# Altium footprint library Resistors_GP.PcbLib: 194 footprints (part 2 of 13)
Each footprint in its own frame and in the unit in brackets; x right, y up, seen from the top. Pads: shape width x height; smd on the part's side, far side on the other; paste and mask are expansions set on the pad; w line width, h text height; cw(c..) or ccw(c..) is an arc to the next point about the centre after c.
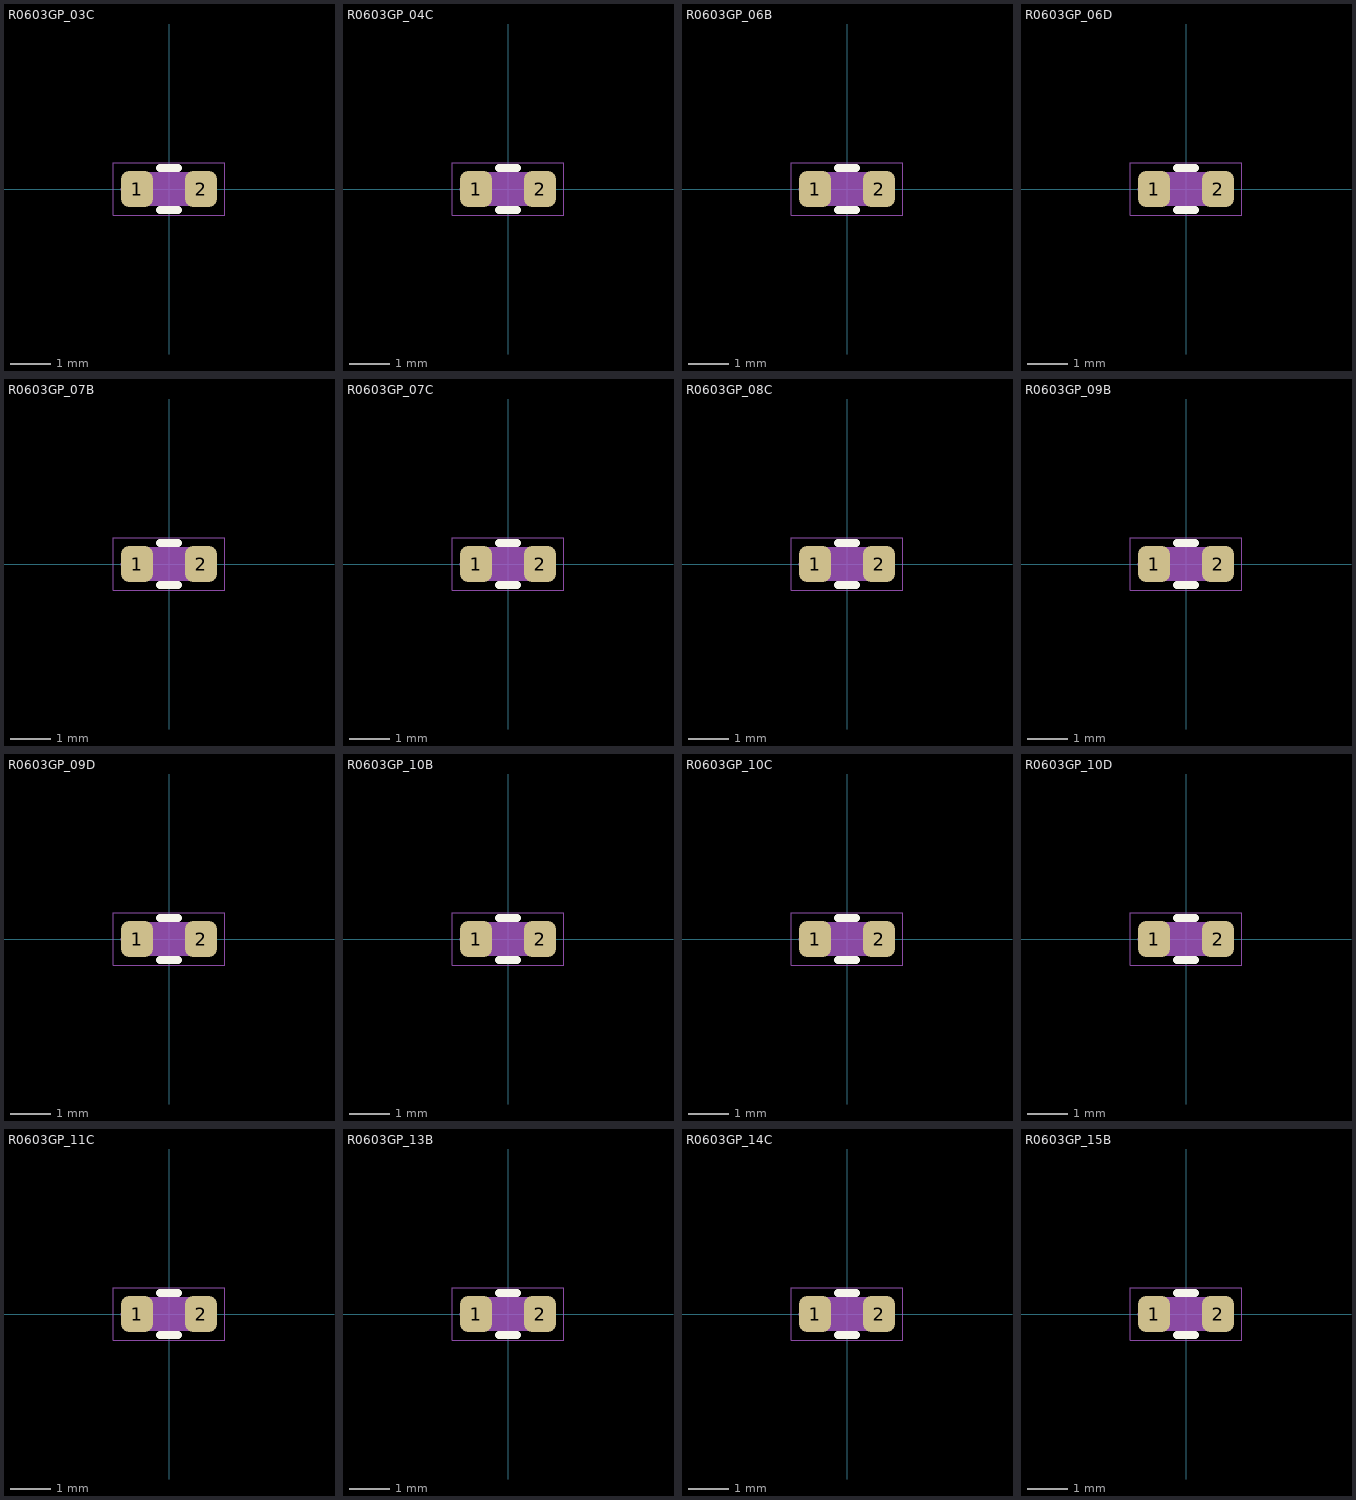
[diagram p1: the footprints below, top view; thin cyan lines are the x and y axes]

## R0603GP_03С [mm] "SMD060316X08MM"
height 0.45
pads (2):
  rrect50% 0.8x0.9 smd mask+0.05: 1(-0.8,0) 2(0.8,0)
Top Overlay:
  lines w0.2: -0.225,-0.525 0.225,-0.525 ; -0.225,0.525 0.225,0.525
Top Courtyard:
  lines w0.025: -1.4,-0.65 1.4,-0.65 1.4,0.65 -1.4,0.65 -1.4,-0.65
Top Assembly:
  lines w0.01: -1.19,-0.025 -1.19,0.025 ; 1.19,-0.025 1.19,0.025
  lines w0.05: -0.549,-0.395 0.549,-0.395 ; -0.549,0.395 0.549,0.395 ; -0.45,-0.395 -0.45,0.395 ; -0.4,-0.395 -0.4,0.395 ; -0.35,-0.395 -0.35,0.395 ; -0.3,-0.395 -0.3,0.395 ; -0.25,-0.395 -0.25,0.395 ; -0.2,-0.395 -0.2,0.395 ; -0.15,-0.395 -0.15,0.395 ; -0.1,-0.395 -0.1,0.395 ; -0.05,-0.395 -0.05,0.395 ; 0,-0.395 0,0.395 ; 0.05,-0.395 0.05,0.395 ; 0.1,-0.395 0.1,0.395 ; 0.15,-0.395 0.15,0.395 ; 0.2,-0.395 0.2,0.395 ; 0.25,-0.395 0.25,0.395 ; 0.3,-0.395 0.3,0.395 ; 0.35,-0.395 0.35,0.395 ; 0.4,-0.395 0.4,0.395 ; 0.45,-0.395 0.45,0.395 ; -0.55,-0.4 ccw(c-2.125,0) -0.55,0.4 ; -0.55,-0.4 -0.8,-0.4 -0.8,0.4 -0.55,0.4 ; -0.55,-0.4 -0.5,-0.4 -0.5,-0.395 -0.5,0.395 -0.5,0.4 -0.55,0.4 ; 0.55,-0.4 cw(c2.125,0) 0.55,0.4 ; 0.55,-0.4 0.8,-0.4 0.8,0.4 0.55,0.4 ; 0.55,-0.4 0.5,-0.4 0.5,-0.395 0.5,0.395 0.5,0.4 0.55,0.4
  text ".Designator" at -1.801,0.669 h0.8
3D body "R0603_BLACK_03С.x_t": height 0.45, standoff 0, extent -0.8,-0.4 0.8,0.4

## R0603GP_04C [mm] "SMD060316X08MM"
height 0.45
pads (2):
  rrect50% 0.8x0.9 smd mask+0.05: 1(-0.8,0) 2(0.8,0)
Top Overlay:
  lines w0.2: -0.225,-0.525 0.225,-0.525 ; -0.225,0.525 0.225,0.525
Top Courtyard:
  lines w0.025: -1.4,-0.65 -1.4,0.65 1.4,0.65 1.4,-0.65 -1.4,-0.65
Top Assembly:
  lines w0.01: -1.19,-0.025 -1.19,0.025 ; 1.19,-0.025 1.19,0.025
  lines w0.05: -0.549,-0.395 0.549,-0.395 ; -0.549,0.395 0.549,0.395 ; -0.45,-0.395 -0.45,0.395 ; -0.4,-0.395 -0.4,0.395 ; -0.35,-0.395 -0.35,0.395 ; -0.3,-0.395 -0.3,0.395 ; -0.25,-0.395 -0.25,0.395 ; -0.2,-0.395 -0.2,0.395 ; -0.15,-0.395 -0.15,0.395 ; -0.1,-0.395 -0.1,0.395 ; -0.05,-0.395 -0.05,0.395 ; 0,-0.395 0,0.395 ; 0.05,-0.395 0.05,0.395 ; 0.1,-0.395 0.1,0.395 ; 0.15,-0.395 0.15,0.395 ; 0.2,-0.395 0.2,0.395 ; 0.25,-0.395 0.25,0.395 ; 0.3,-0.395 0.3,0.395 ; 0.35,-0.395 0.35,0.395 ; 0.4,-0.395 0.4,0.395 ; 0.45,-0.395 0.45,0.395 ; -0.55,-0.4 ccw(c-2.125,0) -0.55,0.4 ; -0.55,-0.4 -0.5,-0.4 -0.5,-0.395 -0.5,0.395 -0.5,0.4 -0.55,0.4 ; -0.55,-0.4 -0.8,-0.4 -0.8,0.4 -0.55,0.4 ; 0.55,-0.4 cw(c2.125,0) 0.55,0.4 ; 0.55,-0.4 0.5,-0.4 0.5,-0.395 0.5,0.395 0.5,0.4 0.55,0.4 ; 0.55,-0.4 0.8,-0.4 0.8,0.4 0.55,0.4
  text ".Designator" at -1.801,0.669 h0.8
3D body "R0603_BLACK_04C.x_t": height 0.45, standoff 0, extent -0.8,-0.4 0.8,0.4

## R0603GP_06B [mm] "SMD060316X08MM"
height 0.45
pads (2):
  rrect50% 0.8x0.9 smd mask+0.05: 1(-0.8,0) 2(0.8,0)
Top Overlay:
  lines w0.2: -0.225,-0.525 0.225,-0.525 ; -0.225,0.525 0.225,0.525
Top Courtyard:
  lines w0.025: -1.4,-0.65 1.4,-0.65 1.4,0.65 -1.4,0.65 -1.4,-0.65
Top Assembly:
  lines w0.01: -1.19,-0.025 -1.19,0.025 ; 1.19,-0.025 1.19,0.025
  lines w0.05: -0.549,-0.395 0.549,-0.395 ; -0.549,0.395 0.549,0.395 ; -0.45,-0.395 -0.45,0.395 ; -0.4,-0.395 -0.4,0.395 ; -0.35,-0.395 -0.35,0.395 ; -0.3,-0.395 -0.3,0.395 ; -0.25,-0.395 -0.25,0.395 ; -0.2,-0.395 -0.2,0.395 ; -0.15,-0.395 -0.15,0.395 ; -0.1,-0.395 -0.1,0.395 ; -0.05,-0.395 -0.05,0.395 ; 0,-0.395 0,0.395 ; 0.05,-0.395 0.05,0.395 ; 0.1,-0.395 0.1,0.395 ; 0.15,-0.395 0.15,0.395 ; 0.2,-0.395 0.2,0.395 ; 0.25,-0.395 0.25,0.395 ; 0.3,-0.395 0.3,0.395 ; 0.35,-0.395 0.35,0.395 ; 0.4,-0.395 0.4,0.395 ; 0.45,-0.395 0.45,0.395 ; -0.55,-0.4 ccw(c-2.125,0) -0.55,0.4 ; -0.55,-0.4 -0.5,-0.4 -0.5,-0.395 -0.5,0.395 -0.5,0.4 -0.55,0.4 ; -0.55,-0.4 -0.8,-0.4 -0.8,0.4 -0.55,0.4 ; 0.55,-0.4 cw(c2.125,0) 0.55,0.4 ; 0.55,-0.4 0.5,-0.4 0.5,-0.395 0.5,0.395 0.5,0.4 0.55,0.4 ; 0.55,-0.4 0.8,-0.4 0.8,0.4 0.55,0.4
  text ".Designator" at -1.801,0.669 h0.8
3D body "R0603_BLACK_06B.x_t": height 0.45, standoff 0, extent -0.8,-0.4 0.8,0.4

## R0603GP_06D [mm] "SMD060316X08MM"
height 0.45
pads (2):
  rrect50% 0.8x0.9 smd mask+0.05: 1(-0.8,0) 2(0.8,0)
Top Overlay:
  lines w0.2: -0.225,-0.525 0.225,-0.525 ; -0.225,0.525 0.225,0.525
Top Courtyard:
  lines w0.025: -1.4,-0.65 -1.4,0.65 1.4,0.65 1.4,-0.65 -1.4,-0.65
Top Assembly:
  lines w0.01: -1.19,-0.025 -1.19,0.025 ; 1.19,-0.025 1.19,0.025
  lines w0.05: -0.549,-0.395 0.549,-0.395 ; -0.549,0.395 0.549,0.395 ; -0.45,-0.395 -0.45,0.395 ; -0.4,-0.395 -0.4,0.395 ; -0.35,-0.395 -0.35,0.395 ; -0.3,-0.395 -0.3,0.395 ; -0.25,-0.395 -0.25,0.395 ; -0.2,-0.395 -0.2,0.395 ; -0.15,-0.395 -0.15,0.395 ; -0.1,-0.395 -0.1,0.395 ; -0.05,-0.395 -0.05,0.395 ; 0,-0.395 0,0.395 ; 0.05,-0.395 0.05,0.395 ; 0.1,-0.395 0.1,0.395 ; 0.15,-0.395 0.15,0.395 ; 0.2,-0.395 0.2,0.395 ; 0.25,-0.395 0.25,0.395 ; 0.3,-0.395 0.3,0.395 ; 0.35,-0.395 0.35,0.395 ; 0.4,-0.395 0.4,0.395 ; 0.45,-0.395 0.45,0.395 ; -0.55,-0.4 ccw(c-2.125,0) -0.55,0.4 ; -0.55,-0.4 -0.5,-0.4 -0.5,-0.395 -0.5,0.395 -0.5,0.4 -0.55,0.4 ; -0.55,-0.4 -0.8,-0.4 -0.8,0.4 -0.55,0.4 ; 0.55,-0.4 cw(c2.125,0) 0.55,0.4 ; 0.55,-0.4 0.5,-0.4 0.5,-0.395 0.5,0.395 0.5,0.4 0.55,0.4 ; 0.55,-0.4 0.8,-0.4 0.8,0.4 0.55,0.4
  text ".Designator" at -1.801,0.669 h0.8
3D body "R0603_BLACK_06D.x_t": height 0.45, standoff 0, extent -0.8,-0.4 0.8,0.4

## R0603GP_07B [mm] "SMD060316X08MM"
height 0.45
pads (2):
  rrect50% 0.8x0.9 smd mask+0.05: 1(-0.8,0) 2(0.8,0)
Top Overlay:
  lines w0.2: -0.225,-0.525 0.225,-0.525 ; -0.225,0.525 0.225,0.525
Top Courtyard:
  lines w0.025: -1.4,-0.65 1.4,-0.65 1.4,0.65 -1.4,0.65 -1.4,-0.65
Top Assembly:
  lines w0.01: -1.19,-0.025 -1.19,0.025 ; 1.19,-0.025 1.19,0.025
  lines w0.05: -0.549,-0.395 0.549,-0.395 ; -0.549,0.395 0.549,0.395 ; -0.45,-0.395 -0.45,0.395 ; -0.4,-0.395 -0.4,0.395 ; -0.35,-0.395 -0.35,0.395 ; -0.3,-0.395 -0.3,0.395 ; -0.25,-0.395 -0.25,0.395 ; -0.2,-0.395 -0.2,0.395 ; -0.15,-0.395 -0.15,0.395 ; -0.1,-0.395 -0.1,0.395 ; -0.05,-0.395 -0.05,0.395 ; 0,-0.395 0,0.395 ; 0.05,-0.395 0.05,0.395 ; 0.1,-0.395 0.1,0.395 ; 0.15,-0.395 0.15,0.395 ; 0.2,-0.395 0.2,0.395 ; 0.25,-0.395 0.25,0.395 ; 0.3,-0.395 0.3,0.395 ; 0.35,-0.395 0.35,0.395 ; 0.4,-0.395 0.4,0.395 ; 0.45,-0.395 0.45,0.395 ; -0.55,-0.4 ccw(c-2.125,0) -0.55,0.4 ; -0.55,-0.4 -0.8,-0.4 -0.8,0.4 -0.55,0.4 ; -0.55,-0.4 -0.5,-0.4 -0.5,-0.395 -0.5,0.395 -0.5,0.4 -0.55,0.4 ; 0.55,-0.4 cw(c2.125,0) 0.55,0.4 ; 0.55,-0.4 0.8,-0.4 0.8,0.4 0.55,0.4 ; 0.55,-0.4 0.5,-0.4 0.5,-0.395 0.5,0.395 0.5,0.4 0.55,0.4
  text ".Designator" at -1.801,0.669 h0.8
3D body "R0603_BLACK_07B.x_t": height 0.45, standoff 0, extent -0.8,-0.4 0.8,0.4

## R0603GP_07C [mm] "SMD060316X08MM"
height 0.45
pads (2):
  rrect50% 0.8x0.9 smd mask+0.05: 1(-0.8,0) 2(0.8,0)
Top Overlay:
  lines w0.2: -0.225,-0.525 0.225,-0.525 ; -0.225,0.525 0.225,0.525
Top Courtyard:
  lines w0.025: -1.4,-0.65 1.4,-0.65 1.4,0.65 -1.4,0.65 -1.4,-0.65
Top Assembly:
  lines w0.01: -1.19,-0.025 -1.19,0.025 ; 1.19,-0.025 1.19,0.025
  lines w0.05: -0.549,-0.395 0.549,-0.395 ; -0.549,0.395 0.549,0.395 ; -0.45,-0.395 -0.45,0.395 ; -0.4,-0.395 -0.4,0.395 ; -0.35,-0.395 -0.35,0.395 ; -0.3,-0.395 -0.3,0.395 ; -0.25,-0.395 -0.25,0.395 ; -0.2,-0.395 -0.2,0.395 ; -0.15,-0.395 -0.15,0.395 ; -0.1,-0.395 -0.1,0.395 ; -0.05,-0.395 -0.05,0.395 ; 0,-0.395 0,0.395 ; 0.05,-0.395 0.05,0.395 ; 0.1,-0.395 0.1,0.395 ; 0.15,-0.395 0.15,0.395 ; 0.2,-0.395 0.2,0.395 ; 0.25,-0.395 0.25,0.395 ; 0.3,-0.395 0.3,0.395 ; 0.35,-0.395 0.35,0.395 ; 0.4,-0.395 0.4,0.395 ; 0.45,-0.395 0.45,0.395 ; -0.55,-0.4 ccw(c-2.125,0) -0.55,0.4 ; -0.55,-0.4 -0.8,-0.4 -0.8,0.4 -0.55,0.4 ; -0.55,-0.4 -0.5,-0.4 -0.5,-0.395 -0.5,0.395 -0.5,0.4 -0.55,0.4 ; 0.55,-0.4 cw(c2.125,0) 0.55,0.4 ; 0.55,-0.4 0.8,-0.4 0.8,0.4 0.55,0.4 ; 0.55,-0.4 0.5,-0.4 0.5,-0.395 0.5,0.395 0.5,0.4 0.55,0.4
  text ".Designator" at -1.801,0.669 h0.8
3D body "R0603_BLACK_07C.x_t": height 0.45, standoff 0, extent -0.8,-0.4 0.8,0.4

## R0603GP_08C [mm] "SMD060316X08MM"
height 0.45
pads (2):
  rrect50% 0.8x0.9 smd mask+0.05: 1(-0.8,0) 2(0.8,0)
Top Overlay:
  lines w0.2: -0.225,-0.525 0.225,-0.525 ; -0.225,0.525 0.225,0.525
Top Courtyard:
  lines w0.025: -1.4,-0.65 1.4,-0.65 1.4,0.65 -1.4,0.65 -1.4,-0.65
Top Assembly:
  lines w0.01: -1.19,-0.025 -1.19,0.025 ; 1.19,-0.025 1.19,0.025
  lines w0.05: -0.549,-0.395 0.549,-0.395 ; -0.549,0.395 0.549,0.395 ; -0.45,-0.395 -0.45,0.395 ; -0.4,-0.395 -0.4,0.395 ; -0.35,-0.395 -0.35,0.395 ; -0.3,-0.395 -0.3,0.395 ; -0.25,-0.395 -0.25,0.395 ; -0.2,-0.395 -0.2,0.395 ; -0.15,-0.395 -0.15,0.395 ; -0.1,-0.395 -0.1,0.395 ; -0.05,-0.395 -0.05,0.395 ; 0,-0.395 0,0.395 ; 0.05,-0.395 0.05,0.395 ; 0.1,-0.395 0.1,0.395 ; 0.15,-0.395 0.15,0.395 ; 0.2,-0.395 0.2,0.395 ; 0.25,-0.395 0.25,0.395 ; 0.3,-0.395 0.3,0.395 ; 0.35,-0.395 0.35,0.395 ; 0.4,-0.395 0.4,0.395 ; 0.45,-0.395 0.45,0.395 ; -0.55,-0.4 ccw(c-2.125,0) -0.55,0.4 ; -0.55,-0.4 -0.8,-0.4 -0.8,0.4 -0.55,0.4 ; -0.55,-0.4 -0.5,-0.4 -0.5,-0.395 -0.5,0.395 -0.5,0.4 -0.55,0.4 ; 0.55,-0.4 cw(c2.125,0) 0.55,0.4 ; 0.55,-0.4 0.8,-0.4 0.8,0.4 0.55,0.4 ; 0.55,-0.4 0.5,-0.4 0.5,-0.395 0.5,0.395 0.5,0.4 0.55,0.4
  text ".Designator" at -1.801,0.669 h0.8
3D body "R0603_BLACK_08C.x_t": height 0.45, standoff 0, extent -0.8,-0.4 0.8,0.4

## R0603GP_09B [mm] "SMD060316X08MM"
height 0.45
pads (2):
  rrect50% 0.8x0.9 smd mask+0.05: 1(-0.8,0) 2(0.8,0)
Top Overlay:
  lines w0.2: -0.225,-0.525 0.225,-0.525 ; -0.225,0.525 0.225,0.525
Top Courtyard:
  lines w0.025: -1.4,-0.65 1.4,-0.65 1.4,0.65 -1.4,0.65 -1.4,-0.65
Top Assembly:
  lines w0.01: -1.19,-0.025 -1.19,0.025 ; 1.19,-0.025 1.19,0.025
  lines w0.05: -0.549,-0.395 0.549,-0.395 ; -0.549,0.395 0.549,0.395 ; -0.45,-0.395 -0.45,0.395 ; -0.4,-0.395 -0.4,0.395 ; -0.35,-0.395 -0.35,0.395 ; -0.3,-0.395 -0.3,0.395 ; -0.25,-0.395 -0.25,0.395 ; -0.2,-0.395 -0.2,0.395 ; -0.15,-0.395 -0.15,0.395 ; -0.1,-0.395 -0.1,0.395 ; -0.05,-0.395 -0.05,0.395 ; 0,-0.395 0,0.395 ; 0.05,-0.395 0.05,0.395 ; 0.1,-0.395 0.1,0.395 ; 0.15,-0.395 0.15,0.395 ; 0.2,-0.395 0.2,0.395 ; 0.25,-0.395 0.25,0.395 ; 0.3,-0.395 0.3,0.395 ; 0.35,-0.395 0.35,0.395 ; 0.4,-0.395 0.4,0.395 ; 0.45,-0.395 0.45,0.395 ; -0.55,-0.4 ccw(c-2.125,0) -0.55,0.4 ; -0.55,-0.4 -0.5,-0.4 -0.5,-0.395 -0.5,0.395 -0.5,0.4 -0.55,0.4 ; -0.55,-0.4 -0.8,-0.4 -0.8,0.4 -0.55,0.4 ; 0.55,-0.4 cw(c2.125,0) 0.55,0.4 ; 0.55,-0.4 0.5,-0.4 0.5,-0.395 0.5,0.395 0.5,0.4 0.55,0.4 ; 0.55,-0.4 0.8,-0.4 0.8,0.4 0.55,0.4
  text ".Designator" at -1.801,0.669 h0.8
3D body "R0603_BLACK_09B.x_t": height 0.45, standoff 0, extent -0.8,-0.4 0.8,0.4

## R0603GP_09D [mm] "SMD060316X08MM"
height 0.45
pads (2):
  rrect50% 0.8x0.9 smd mask+0.05: 1(-0.8,0) 2(0.8,0)
Top Overlay:
  lines w0.2: -0.225,-0.525 0.225,-0.525 ; -0.225,0.525 0.225,0.525
Top Courtyard:
  lines w0.025: -1.4,-0.65 -1.4,0.65 1.4,0.65 1.4,-0.65 -1.4,-0.65
Top Assembly:
  lines w0.01: -1.19,-0.025 -1.19,0.025 ; 1.19,-0.025 1.19,0.025
  lines w0.05: -0.549,-0.395 0.549,-0.395 ; -0.549,0.395 0.549,0.395 ; -0.45,-0.395 -0.45,0.395 ; -0.4,-0.395 -0.4,0.395 ; -0.35,-0.395 -0.35,0.395 ; -0.3,-0.395 -0.3,0.395 ; -0.25,-0.395 -0.25,0.395 ; -0.2,-0.395 -0.2,0.395 ; -0.15,-0.395 -0.15,0.395 ; -0.1,-0.395 -0.1,0.395 ; -0.05,-0.395 -0.05,0.395 ; 0,-0.395 0,0.395 ; 0.05,-0.395 0.05,0.395 ; 0.1,-0.395 0.1,0.395 ; 0.15,-0.395 0.15,0.395 ; 0.2,-0.395 0.2,0.395 ; 0.25,-0.395 0.25,0.395 ; 0.3,-0.395 0.3,0.395 ; 0.35,-0.395 0.35,0.395 ; 0.4,-0.395 0.4,0.395 ; 0.45,-0.395 0.45,0.395 ; -0.55,-0.4 ccw(c-2.125,0) -0.55,0.4 ; -0.55,-0.4 -0.8,-0.4 -0.8,0.4 -0.55,0.4 ; -0.55,-0.4 -0.5,-0.4 -0.5,-0.395 -0.5,0.395 -0.5,0.4 -0.55,0.4 ; 0.55,-0.4 cw(c2.125,0) 0.55,0.4 ; 0.55,-0.4 0.8,-0.4 0.8,0.4 0.55,0.4 ; 0.55,-0.4 0.5,-0.4 0.5,-0.395 0.5,0.395 0.5,0.4 0.55,0.4
  text ".Designator" at -1.801,0.669 h0.8
3D body "R0603_BLACK_09D.x_t": height 0.45, standoff 0, extent -0.8,-0.4 0.8,0.4

## R0603GP_10B [mm] "SMD060316X08MM"
height 0.45
pads (2):
  rrect50% 0.8x0.9 smd mask+0.05: 1(-0.8,0) 2(0.8,0)
Top Overlay:
  lines w0.2: -0.225,-0.525 0.225,-0.525 ; -0.225,0.525 0.225,0.525
Top Courtyard:
  lines w0.025: -1.4,-0.65 1.4,-0.65 1.4,0.65 -1.4,0.65 -1.4,-0.65
Top Assembly:
  lines w0.01: -1.19,-0.025 -1.19,0.025 ; 1.19,-0.025 1.19,0.025
  lines w0.05: -0.549,-0.395 0.549,-0.395 ; -0.549,0.395 0.549,0.395 ; -0.45,-0.395 -0.45,0.395 ; -0.4,-0.395 -0.4,0.395 ; -0.35,-0.395 -0.35,0.395 ; -0.3,-0.395 -0.3,0.395 ; -0.25,-0.395 -0.25,0.395 ; -0.2,-0.395 -0.2,0.395 ; -0.15,-0.395 -0.15,0.395 ; -0.1,-0.395 -0.1,0.395 ; -0.05,-0.395 -0.05,0.395 ; 0,-0.395 0,0.395 ; 0.05,-0.395 0.05,0.395 ; 0.1,-0.395 0.1,0.395 ; 0.15,-0.395 0.15,0.395 ; 0.2,-0.395 0.2,0.395 ; 0.25,-0.395 0.25,0.395 ; 0.3,-0.395 0.3,0.395 ; 0.35,-0.395 0.35,0.395 ; 0.4,-0.395 0.4,0.395 ; 0.45,-0.395 0.45,0.395 ; -0.55,-0.4 ccw(c-2.125,0) -0.55,0.4 ; -0.55,-0.4 -0.8,-0.4 -0.8,0.4 -0.55,0.4 ; -0.55,-0.4 -0.5,-0.4 -0.5,-0.395 -0.5,0.395 -0.5,0.4 -0.55,0.4 ; 0.55,-0.4 cw(c2.125,0) 0.55,0.4 ; 0.55,-0.4 0.8,-0.4 0.8,0.4 0.55,0.4 ; 0.55,-0.4 0.5,-0.4 0.5,-0.395 0.5,0.395 0.5,0.4 0.55,0.4
  text ".Designator" at -1.801,0.669 h0.8
3D body "R0603_BLACK_10B.x_t": height 0.45, standoff 0, extent -0.8,-0.4 0.8,0.4

## R0603GP_10C [mm] "SMD060316X08MM"
height 0.45
pads (2):
  rrect50% 0.8x0.9 smd mask+0.05: 1(-0.8,0) 2(0.8,0)
Top Overlay:
  lines w0.2: -0.225,-0.525 0.225,-0.525 ; -0.225,0.525 0.225,0.525
Top Courtyard:
  lines w0.025: -1.4,-0.65 1.4,-0.65 1.4,0.65 -1.4,0.65 -1.4,-0.65
Top Assembly:
  lines w0.01: -1.19,-0.025 -1.19,0.025 ; 1.19,-0.025 1.19,0.025
  lines w0.05: -0.549,-0.395 0.549,-0.395 ; -0.549,0.395 0.549,0.395 ; -0.45,-0.395 -0.45,0.395 ; -0.4,-0.395 -0.4,0.395 ; -0.35,-0.395 -0.35,0.395 ; -0.3,-0.395 -0.3,0.395 ; -0.25,-0.395 -0.25,0.395 ; -0.2,-0.395 -0.2,0.395 ; -0.15,-0.395 -0.15,0.395 ; -0.1,-0.395 -0.1,0.395 ; -0.05,-0.395 -0.05,0.395 ; 0,-0.395 0,0.395 ; 0.05,-0.395 0.05,0.395 ; 0.1,-0.395 0.1,0.395 ; 0.15,-0.395 0.15,0.395 ; 0.2,-0.395 0.2,0.395 ; 0.25,-0.395 0.25,0.395 ; 0.3,-0.395 0.3,0.395 ; 0.35,-0.395 0.35,0.395 ; 0.4,-0.395 0.4,0.395 ; 0.45,-0.395 0.45,0.395 ; -0.55,-0.4 ccw(c-2.125,0) -0.55,0.4 ; -0.55,-0.4 -0.8,-0.4 -0.8,0.4 -0.55,0.4 ; -0.55,-0.4 -0.5,-0.4 -0.5,-0.395 -0.5,0.395 -0.5,0.4 -0.55,0.4 ; 0.55,-0.4 cw(c2.125,0) 0.55,0.4 ; 0.55,-0.4 0.8,-0.4 0.8,0.4 0.55,0.4 ; 0.55,-0.4 0.5,-0.4 0.5,-0.395 0.5,0.395 0.5,0.4 0.55,0.4
  text ".Designator" at -1.801,0.669 h0.8
3D body "R0603_BLACK_10C.x_t": height 0.45, standoff 0, extent -0.8,-0.4 0.8,0.4

## R0603GP_10D [mm] "SMD060316X08MM"
height 0.45
pads (2):
  rrect50% 0.8x0.9 smd mask+0.05: 1(-0.8,0) 2(0.8,0)
Top Overlay:
  lines w0.2: -0.225,-0.525 0.225,-0.525 ; -0.225,0.525 0.225,0.525
Top Courtyard:
  lines w0.025: -1.4,-0.65 1.4,-0.65 1.4,0.65 -1.4,0.65 -1.4,-0.65
Top Assembly:
  lines w0.01: -1.19,-0.025 -1.19,0.025 ; 1.19,-0.025 1.19,0.025
  lines w0.05: -0.549,-0.395 0.549,-0.395 ; -0.549,0.395 0.549,0.395 ; -0.45,-0.395 -0.45,0.395 ; -0.4,-0.395 -0.4,0.395 ; -0.35,-0.395 -0.35,0.395 ; -0.3,-0.395 -0.3,0.395 ; -0.25,-0.395 -0.25,0.395 ; -0.2,-0.395 -0.2,0.395 ; -0.15,-0.395 -0.15,0.395 ; -0.1,-0.395 -0.1,0.395 ; -0.05,-0.395 -0.05,0.395 ; 0,-0.395 0,0.395 ; 0.05,-0.395 0.05,0.395 ; 0.1,-0.395 0.1,0.395 ; 0.15,-0.395 0.15,0.395 ; 0.2,-0.395 0.2,0.395 ; 0.25,-0.395 0.25,0.395 ; 0.3,-0.395 0.3,0.395 ; 0.35,-0.395 0.35,0.395 ; 0.4,-0.395 0.4,0.395 ; 0.45,-0.395 0.45,0.395 ; -0.55,-0.4 ccw(c-2.125,0) -0.55,0.4 ; -0.55,-0.4 -0.8,-0.4 -0.8,0.4 -0.55,0.4 ; -0.55,-0.4 -0.5,-0.4 -0.5,-0.395 -0.5,0.395 -0.5,0.4 -0.55,0.4 ; 0.55,-0.4 cw(c2.125,0) 0.55,0.4 ; 0.55,-0.4 0.8,-0.4 0.8,0.4 0.55,0.4 ; 0.55,-0.4 0.5,-0.4 0.5,-0.395 0.5,0.395 0.5,0.4 0.55,0.4
  text ".Designator" at -1.801,0.669 h0.8
3D body "R0603_BLACK_10D.x_t": height 0.45, standoff 0, extent -0.8,-0.4 0.8,0.4

## R0603GP_11C [mm] "SMD060316X08MM"
height 0.45
pads (2):
  rrect50% 0.8x0.9 smd mask+0.05: 1(-0.8,0) 2(0.8,0)
Top Overlay:
  lines w0.2: -0.225,-0.525 0.225,-0.525 ; -0.225,0.525 0.225,0.525
Top Courtyard:
  lines w0.025: -1.4,-0.65 -1.4,0.65 1.4,0.65 1.4,-0.65 -1.4,-0.65
Top Assembly:
  lines w0.01: -1.19,-0.025 -1.19,0.025 ; 1.19,-0.025 1.19,0.025
  lines w0.05: -0.549,-0.395 0.549,-0.395 ; -0.549,0.395 0.549,0.395 ; -0.45,-0.395 -0.45,0.395 ; -0.4,-0.395 -0.4,0.395 ; -0.35,-0.395 -0.35,0.395 ; -0.3,-0.395 -0.3,0.395 ; -0.25,-0.395 -0.25,0.395 ; -0.2,-0.395 -0.2,0.395 ; -0.15,-0.395 -0.15,0.395 ; -0.1,-0.395 -0.1,0.395 ; -0.05,-0.395 -0.05,0.395 ; 0,-0.395 0,0.395 ; 0.05,-0.395 0.05,0.395 ; 0.1,-0.395 0.1,0.395 ; 0.15,-0.395 0.15,0.395 ; 0.2,-0.395 0.2,0.395 ; 0.25,-0.395 0.25,0.395 ; 0.3,-0.395 0.3,0.395 ; 0.35,-0.395 0.35,0.395 ; 0.4,-0.395 0.4,0.395 ; 0.45,-0.395 0.45,0.395 ; -0.55,-0.4 ccw(c-2.125,0) -0.55,0.4 ; -0.55,-0.4 -0.5,-0.4 -0.5,-0.395 -0.5,0.395 -0.5,0.4 -0.55,0.4 ; -0.55,-0.4 -0.8,-0.4 -0.8,0.4 -0.55,0.4 ; 0.55,-0.4 cw(c2.125,0) 0.55,0.4 ; 0.55,-0.4 0.5,-0.4 0.5,-0.395 0.5,0.395 0.5,0.4 0.55,0.4 ; 0.55,-0.4 0.8,-0.4 0.8,0.4 0.55,0.4
  text ".Designator" at -1.801,0.669 h0.8
3D body "R0603_BLACK_11C.x_t": height 0.45, standoff 0, extent -0.8,-0.4 0.8,0.4

## R0603GP_13B [mm] "SMD060316X08MM"
height 0.45
pads (2):
  rrect50% 0.8x0.9 smd mask+0.05: 1(-0.8,0) 2(0.8,0)
Top Overlay:
  lines w0.2: -0.225,-0.525 0.225,-0.525 ; -0.225,0.525 0.225,0.525
Top Courtyard:
  lines w0.025: -1.4,-0.65 -1.4,0.65 1.4,0.65 1.4,-0.65 -1.4,-0.65
Top Assembly:
  lines w0.01: -1.19,-0.025 -1.19,0.025 ; 1.19,-0.025 1.19,0.025
  lines w0.05: -0.549,-0.395 0.549,-0.395 ; -0.549,0.395 0.549,0.395 ; -0.45,-0.395 -0.45,0.395 ; -0.4,-0.395 -0.4,0.395 ; -0.35,-0.395 -0.35,0.395 ; -0.3,-0.395 -0.3,0.395 ; -0.25,-0.395 -0.25,0.395 ; -0.2,-0.395 -0.2,0.395 ; -0.15,-0.395 -0.15,0.395 ; -0.1,-0.395 -0.1,0.395 ; -0.05,-0.395 -0.05,0.395 ; 0,-0.395 0,0.395 ; 0.05,-0.395 0.05,0.395 ; 0.1,-0.395 0.1,0.395 ; 0.15,-0.395 0.15,0.395 ; 0.2,-0.395 0.2,0.395 ; 0.25,-0.395 0.25,0.395 ; 0.3,-0.395 0.3,0.395 ; 0.35,-0.395 0.35,0.395 ; 0.4,-0.395 0.4,0.395 ; 0.45,-0.395 0.45,0.395 ; -0.55,-0.4 ccw(c-2.125,0) -0.55,0.4 ; -0.55,-0.4 -0.5,-0.4 -0.5,-0.395 -0.5,0.395 -0.5,0.4 -0.55,0.4 ; -0.55,-0.4 -0.8,-0.4 -0.8,0.4 -0.55,0.4 ; 0.55,-0.4 cw(c2.125,0) 0.55,0.4 ; 0.55,-0.4 0.5,-0.4 0.5,-0.395 0.5,0.395 0.5,0.4 0.55,0.4 ; 0.55,-0.4 0.8,-0.4 0.8,0.4 0.55,0.4
  text ".Designator" at -1.801,0.669 h0.8
3D body "R0603_BLACK_13B.x_t": height 0.45, standoff 0, extent -0.8,-0.4 0.8,0.4

## R0603GP_14C [mm] "SMD060316X08MM"
height 0.45
pads (2):
  rrect50% 0.8x0.9 smd mask+0.05: 1(-0.8,0) 2(0.8,0)
Top Overlay:
  lines w0.2: -0.225,-0.525 0.225,-0.525 ; -0.225,0.525 0.225,0.525
Top Courtyard:
  lines w0.025: -1.4,-0.65 -1.4,0.65 1.4,0.65 1.4,-0.65 -1.4,-0.65
Top Assembly:
  lines w0.01: -1.19,-0.025 -1.19,0.025 ; 1.19,-0.025 1.19,0.025
  lines w0.05: -0.549,-0.395 0.549,-0.395 ; -0.549,0.395 0.549,0.395 ; -0.45,-0.395 -0.45,0.395 ; -0.4,-0.395 -0.4,0.395 ; -0.35,-0.395 -0.35,0.395 ; -0.3,-0.395 -0.3,0.395 ; -0.25,-0.395 -0.25,0.395 ; -0.2,-0.395 -0.2,0.395 ; -0.15,-0.395 -0.15,0.395 ; -0.1,-0.395 -0.1,0.395 ; -0.05,-0.395 -0.05,0.395 ; 0,-0.395 0,0.395 ; 0.05,-0.395 0.05,0.395 ; 0.1,-0.395 0.1,0.395 ; 0.15,-0.395 0.15,0.395 ; 0.2,-0.395 0.2,0.395 ; 0.25,-0.395 0.25,0.395 ; 0.3,-0.395 0.3,0.395 ; 0.35,-0.395 0.35,0.395 ; 0.4,-0.395 0.4,0.395 ; 0.45,-0.395 0.45,0.395 ; -0.55,-0.4 ccw(c-2.125,0) -0.55,0.4 ; -0.55,-0.4 -0.8,-0.4 -0.8,0.4 -0.55,0.4 ; -0.55,-0.4 -0.5,-0.4 -0.5,-0.395 -0.5,0.395 -0.5,0.4 -0.55,0.4 ; 0.55,-0.4 cw(c2.125,0) 0.55,0.4 ; 0.55,-0.4 0.8,-0.4 0.8,0.4 0.55,0.4 ; 0.55,-0.4 0.5,-0.4 0.5,-0.395 0.5,0.395 0.5,0.4 0.55,0.4
  text ".Designator" at -1.801,0.669 h0.8
3D body "R0603_BLACK_14C.x_t": height 0.45, standoff 0, extent -0.8,-0.4 0.8,0.4

## R0603GP_15B [mm] "SMD060316X08MM"
height 0.45
pads (2):
  rrect50% 0.8x0.9 smd mask+0.05: 1(-0.8,0) 2(0.8,0)
Top Overlay:
  lines w0.2: -0.225,-0.525 0.225,-0.525 ; -0.225,0.525 0.225,0.525
Top Courtyard:
  lines w0.025: -1.4,-0.65 1.4,-0.65 1.4,0.65 -1.4,0.65 -1.4,-0.65
Top Assembly:
  lines w0.01: -1.19,-0.025 -1.19,0.025 ; 1.19,-0.025 1.19,0.025
  lines w0.05: -0.549,-0.395 0.549,-0.395 ; -0.549,0.395 0.549,0.395 ; -0.45,-0.395 -0.45,0.395 ; -0.4,-0.395 -0.4,0.395 ; -0.35,-0.395 -0.35,0.395 ; -0.3,-0.395 -0.3,0.395 ; -0.25,-0.395 -0.25,0.395 ; -0.2,-0.395 -0.2,0.395 ; -0.15,-0.395 -0.15,0.395 ; -0.1,-0.395 -0.1,0.395 ; -0.05,-0.395 -0.05,0.395 ; 0,-0.395 0,0.395 ; 0.05,-0.395 0.05,0.395 ; 0.1,-0.395 0.1,0.395 ; 0.15,-0.395 0.15,0.395 ; 0.2,-0.395 0.2,0.395 ; 0.25,-0.395 0.25,0.395 ; 0.3,-0.395 0.3,0.395 ; 0.35,-0.395 0.35,0.395 ; 0.4,-0.395 0.4,0.395 ; 0.45,-0.395 0.45,0.395 ; -0.55,-0.4 ccw(c-2.125,0) -0.55,0.4 ; -0.55,-0.4 -0.5,-0.4 -0.5,-0.395 -0.5,0.395 -0.5,0.4 -0.55,0.4 ; -0.55,-0.4 -0.8,-0.4 -0.8,0.4 -0.55,0.4 ; 0.55,-0.4 cw(c2.125,0) 0.55,0.4 ; 0.55,-0.4 0.5,-0.4 0.5,-0.395 0.5,0.395 0.5,0.4 0.55,0.4 ; 0.55,-0.4 0.8,-0.4 0.8,0.4 0.55,0.4
  text ".Designator" at -1.801,0.669 h0.8
3D body "R0603_BLACK_15B.x_t": height 0.45, standoff 0, extent -0.8,-0.4 0.8,0.4